# EAGLE library part LT1370 (library natcar)
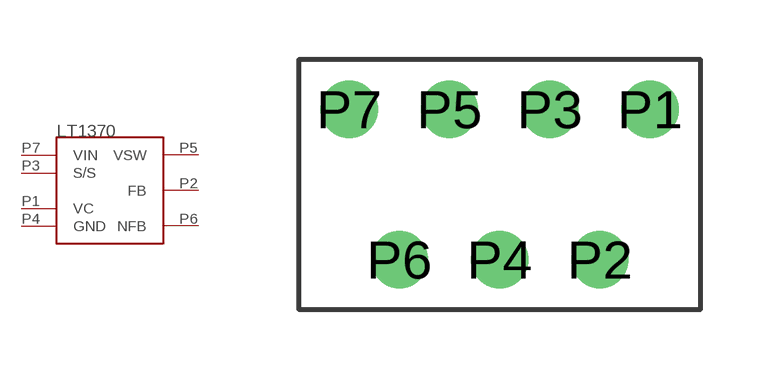
[diagram p0: symbol with the pads of TO220-7; footprint TO220-7]

Designator prefix -

## LT1370  [TO220-7]
P1  VC
P2  FB
P3  S/S
P4  GND
P5  VSW
P6  NFB
P7  VIN

## Footprint TO220-7 (pad centres in mm)
drill 0.94: P1 3.81,3.81; P2 2.54,0; P3 1.27,3.81; P4 0,0; P5 -1.27,3.81; P6 -2.54,0; P7 -3.81,3.81